# Altium footprint library LQM21NN1R0K10D.PcbLib: 1 footprints
Each footprint in its own frame and in the unit in brackets; x right, y up, seen from the top. Pads: shape width x height; smd on the part's side, far side on the other; paste and mask are expansions set on the pad; w line width, h text height; cw(c..) or ccw(c..) is an arc to the next point about the centre after c.
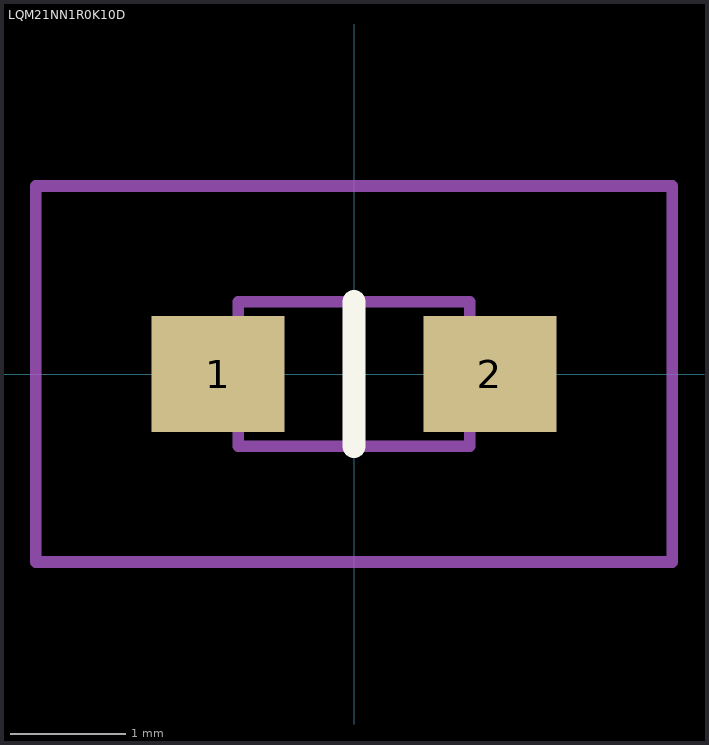
[diagram p0: the footprint, top view; thin cyan lines are the x and y axes]

## LQM21NN1R0K10D [mm]
pads (2):
  rect 1.15x1 smd: 1(-1.175,0) 2(1.175,0)
Top Overlay:
  lines w0.2: 0,-0.625 0,0.625
Mechanical 15:
  lines w0.1: -1,-0.625 1,-0.625 1,0.625 -1,0.625 -1,-0.625
Mechanical 20:
  lines w0.1: -2.75,-1.625 2.75,-1.625 2.75,1.625 -2.75,1.625 -2.75,-1.625